# Altium schematic symbol library SymbLib.SchLib: 11 symbols
Pins are listed as number, name and electrical type; pins without a type are passive.

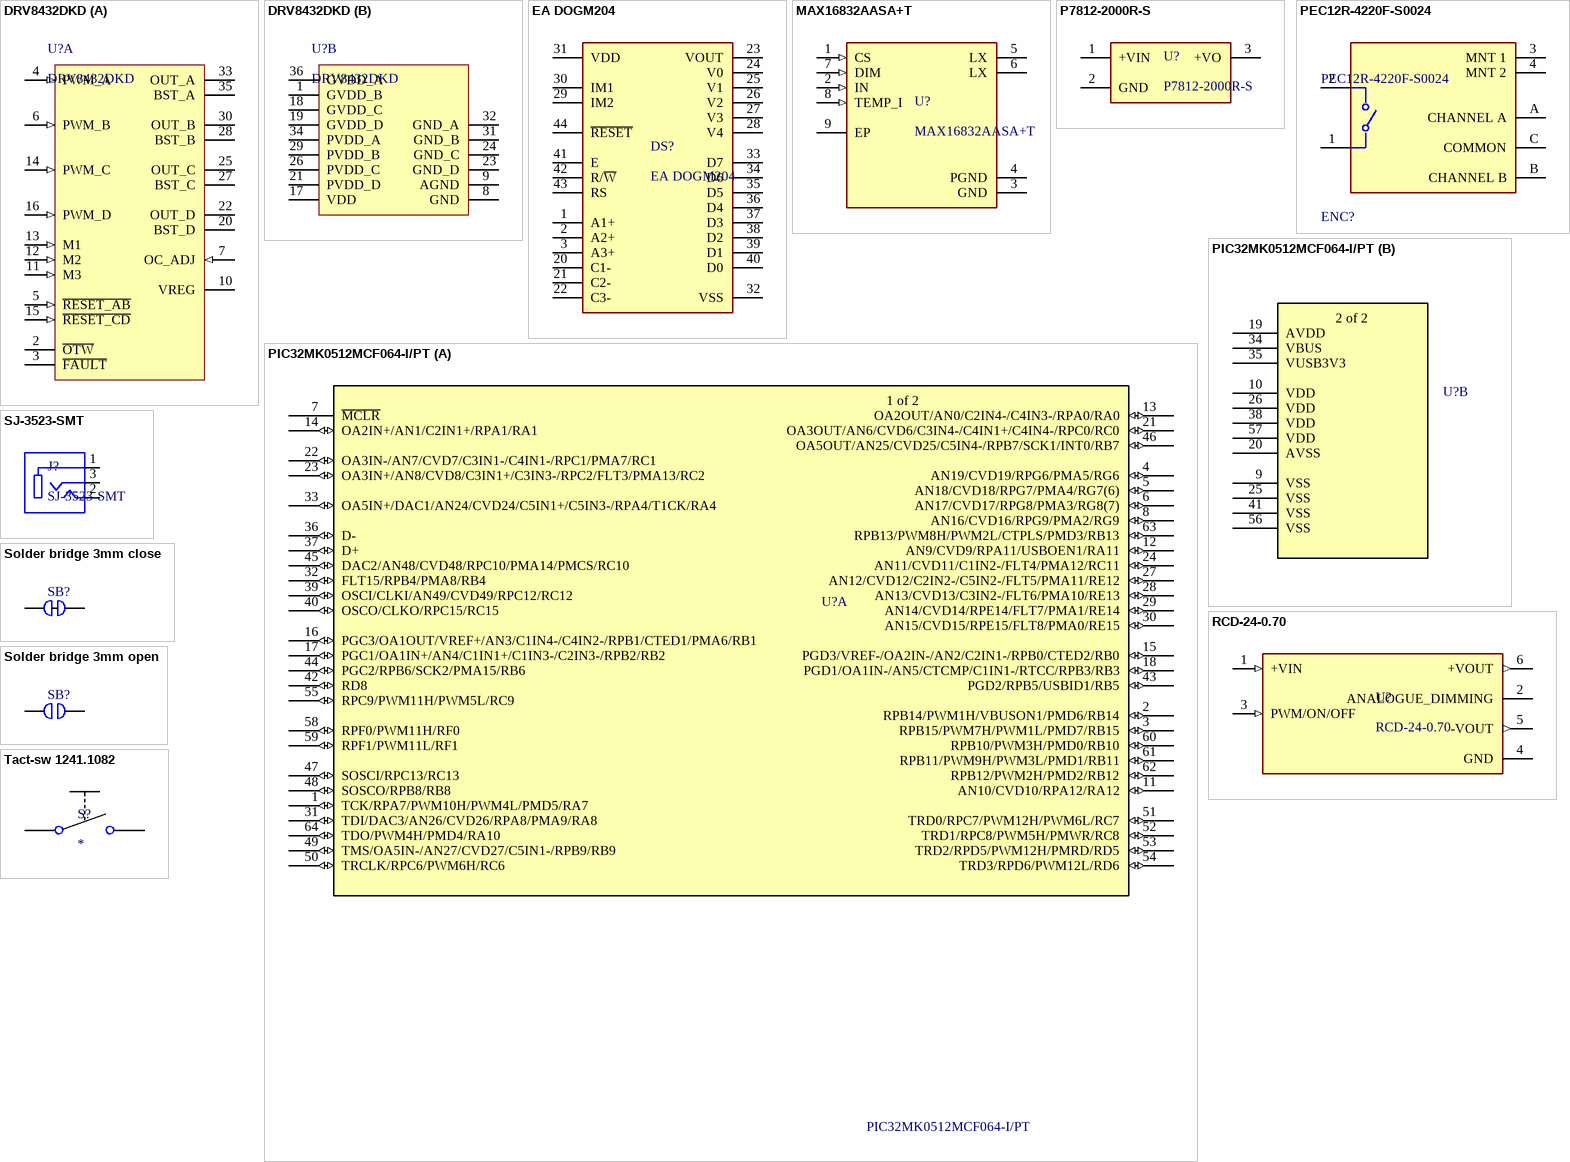
[diagram p0: symbols DRV8432DKD to Tact-sw 1241.1082]

## DRV8432DKD
designator U?
12 A Dual Brushed DC or Single Bipolar Stepper Motor Driver (PWM Ctrl), 0 to 52.5 V, -40 to 85 degC, 36-pin SOP (DKD36), Green (RoHS & no Sb/Br); Vs(Max)(V): 52.5; RMS Output Current(A): 7; Peak Output Current(A): 12; Vs(Min)(V): 0; rDS (ON) (LS + HS)(mOhms): 220; Package Reference: DKD0036A; PackageVersion: 4204421-2/K, 11/2013; Mounting Technology: Surface Mount; PackageDescription: 36-Pin Plastic Small Outline, Body 15.9 x 11 mm, Pitch 0.65 mm; PartNumber: DRV8432DKD; DatasheetVersion: SLES242D; ComponentLink3Description: Package Specification; ComponentLink1URL: http://www.ti.com/; Control I/F: PWM; ComponentLink1Description: Manufacturer URL; ComponentLink2Description: Datasheet; Eco-Plan: Green (RoHS & no Sb/Br); ComponentLink2URL: http://www.ti.com/general/docs/lit/getliterature.tsp?genericPartNumber=DRV8432&fileType=pdf; ComponentLink3URL: http://www.ti.com/lit/ml/mpds126j/mpds126j.pdf
footprint SOP65P1420X360-36N
part A pins: 2 ~{OTW} (oc) "Overtemperature warning signal, open-drain, active-low. An internal pull-up resistor to VREG (3.3 V) is provided on output. Level compliance for 5-V logic can be obtained by adding external pull-up resistor to 5 V", 3 ~{FAULT} (oc) "Fault signal, open-drain, active-low. An internal pull-up resistor to VREG (3.3 V) is provided on output. Level compliance for 5-V logic can be obtained by adding external pull-up resistor to 5 V", 4 PWM_A (in) "Input signal for half-bridge A", 5 ~{RESET_AB} (in) "Reset signal for half-bridge A and half-bridge B, active-low", 6 PWM_B (in) "Input signal for half-bridge B", 7 OC_ADJ (in) "Analog overcurrent programming pin, requires resistor to AGND", 10 VREG "Digital regulator supply filter pin requires 0.1-uF capacitor to AGND.", 11 M3 (in) "Reserved mode selection pin, AGND connection is recommended", 12 M2 (in) "Mode selection pin", 13 M1 (in) "Mode selection pin", 14 PWM_C (in) "Input signal for half-bridge C", 15 ~{RESET_CD} (in) "Reset signal for half-bridge C and half-bridge D, active-low", 16 PWM_D (in) "Input signal for half-bridge D", 20 BST_D "High side bootstrap supply (BST), external capacitor to OUT_D required", 22 OUT_D (hiz) "Output, half-bridge D", 25 OUT_C (hiz) "Output, half-bridge C", 27 BST_C "High side bootstrap supply (BST), external capacitor to OUT_C required", 28 BST_B "High side bootstrap supply (BST), external capacitor to OUT_B required", 30 OUT_B (hiz) "Output, half-bridge B", 33 OUT_A (hiz) "Output, half-bridge A", 35 BST_A "High side bootstrap supply (BST), external capacitor to OUT_A required"
part B pins: 1 GVDD_B (power) "Gate-drive voltage supply", 8 GND (power) "Ground", 9 AGND (power) "Analog ground", 17 VDD (power) "Power supply for digital voltage regulator requires capacitor to ground for decoupling.", 18 GVDD_C (power) "Gate-drive voltage supply", 19 GVDD_D (power) "Gate-drive voltage supply", 21 PVDD_D (power) "Power supply input for half-bridge D requires close decoupling capacitor to ground.", 23 GND_D (power) "Power ground for half-bridge D requires close decoupling capacitor to ground", 24 GND_C (power) "Power ground for half-bridge C requires close decoupling capacitor to ground", 26 PVDD_C (power) "Power supply input for half-bridge C requires close decoupling capacitor to ground.", 29 PVDD_B (power) "Power supply input for half-bridge B requires close decoupling capacitor to gound.", 31 GND_B (power) "Power ground for half-bridge B requires close decoupling capacitor to ground", 32 GND_A (power) "Power ground for half-bridge A requires close decoupling capacitor to ground", 34 PVDD_A (power) "Power supply input for half-bridge A requires close decoupling capacitor to ground.", 36 GVDD_A (power) "Gate-drive voltage supply"

## EA DOGM204
designator DS?
footprint EA DOGM204
pins: 1 A1+, 2 A2+, 3 A3+, 20 C1-, 21 C2-, 22 C3-, 23 VOUT, 24 V0, 25 V1, 26 V2, 27 V3, 28 V4, 29 IM2, 30 IM1, 31 VDD, 32 VSS, 33 D7, 34 D6, 35 D5, 36 D4, 37 D3, 38 D2, 39 D1, 40 D0, 41 E, 42 R/~{W}, 43 RS, 44 ~{RESET}

## MAX16832AASA+T
designator U?
footprint SOIC127P600X168-9N
pins: 1 CS (in), 2 IN (in), 3 GND (power), 4 PGND (power), 5 LX, 6 LX, 7 DIM (in), 8 TEMP_I (in), 9 EP

## P7812-2000R-S
designator U?
footprint P7812-2000R-S
pins: 1 +VIN, 2 GND (power), 3 +VO

## PEC12R-4220F-S0024
designator ENC?
ROTARY ENCODER MECHANICAL 24PPR; Built in Switch: Yes; Pulses per Revolution: 24; Output Type: Quadrature; Hole Diameter: 2mm; Number of Channels: 2; Max Supply Voltage (DC): 5V; RoHS Compliant: Yes; Max Operating Temperature: 70°C; Length: 26mm; Width: 12.5mm; Encoder Type: Mechanical; Series: PEC12R; Mount: Through Hole; Height: 13.4mm; Packaging: Bulk; Package Quantity: 150; Termination: PC Pin; Min Operating Temperature: -30°C; REACH SVHC: No SVHC; Detent: Yes; Orientation: Vertical
footprint FP-PEC12R-4120F-S0012-MFG (PEC12 OEDNI-50-3-7 knob)
pins: 1, 2, 3 MNT 1, 4 MNT 2, A CHANNEL A, B CHANNEL B, C COMMON

## PIC32MK0512MCF064-I/PT
designator U?
Mfr_Name: Microchip; Copyright: Copyright (C) 2023 Ultra Librarian. All rights reserved.; Manufacturer_Part_Number: PIC32MK0512MCF064-I/PT; RefDes: RefDes; Type: DEV
footprint TQFP64_PT_MCH
part A pins: 1 TCK/RPA7/PWM10H/PWM4L/PMD5/RA7 (io), 2 RPB14/PWM1H/VBUSON1/PMD6/RB14 (io), 3 RPB15/PWM7H/PWM1L/PMD7/RB15 (io), 4 AN19/CVD19/RPG6/PMA5/RG6 (io), 5 AN18/CVD18/RPG7/PMA4/RG7(6) (io), 6 AN17/CVD17/RPG8/PMA3/RG8(7) (io), 7 ~{MCLR}, 8 AN16/CVD16/RPG9/PMA2/RG9 (io), 11 AN10/CVD10/RPA12/RA12 (io), 12 AN9/CVD9/RPA11/USBOEN1/RA11 (io), 13 OA2OUT/AN0/C2IN4-/C4IN3-/RPA0/RA0 (io), 14 OA2IN+/AN1/C2IN1+/RPA1/RA1 (io), 15 PGD3/VREF-/OA2IN-/AN2/C2IN1-/RPB0/CTED2/RB0 (io), 16 PGC3/OA1OUT/VREF+/AN3/C1IN4-/C4IN2-/RPB1/CTED1/PMA6/RB1 (io), 17 PGC1/OA1IN+/AN4/C1IN1+/C1IN3-/C2IN3-/RPB2/RB2 (io), 18 PGD1/OA1IN-/AN5/CTCMP/C1IN1-/RTCC/RPB3/RB3 (io), 21 OA3OUT/AN6/CVD6/C3IN4-/C4IN1+/C4IN4-/RPC0/RC0 (io), 22 OA3IN-/AN7/CVD7/C3IN1-/C4IN1-/RPC1/PMA7/RC1 (io), 23 OA3IN+/AN8/CVD8/C3IN1+/C3IN3-/RPC2/FLT3/PMA13/RC2 (io), 24 AN11/CVD11/C1IN2-/FLT4/PMA12/RC11 (io), 27 AN12/CVD12/C2IN2-/C5IN2-/FLT5/PMA11/RE12 (io), 28 AN13/CVD13/C3IN2-/FLT6/PMA10/RE13 (io), 29 AN14/CVD14/RPE14/FLT7/PMA1/RE14 (io), 30 AN15/CVD15/RPE15/FLT8/PMA0/RE15 (io), 31 TDI/DAC3/AN26/CVD26/RPA8/PMA9/RA8 (io), 32 FLT15/RPB4/PMA8/RB4 (io), 33 OA5IN+/DAC1/AN24/CVD24/C5IN1+/C5IN3-/RPA4/T1CK/RA4 (io), 36 D- (io), 37 D+ (io), 39 OSCI/CLKI/AN49/CVD49/RPC12/RC12 (io), 40 OSCO/CLKO/RPC15/RC15 (io), 42 RD8 (io), 43 PGD2/RPB5/USBID1/RB5 (io), 44 PGC2/RPB6/SCK2/PMA15/RB6 (io), 45 DAC2/AN48/CVD48/RPC10/PMA14/PMCS/RC10 (io), 46 OA5OUT/AN25/CVD25/C5IN4-/RPB7/SCK1/INT0/RB7 (io), 47 SOSCI/RPC13/RC13 (io), 48 SOSCO/RPB8/RB8 (io), 49 TMS/OA5IN-/AN27/CVD27/C5IN1-/RPB9/RB9 (io), 50 TRCLK/RPC6/PWM6H/RC6 (io), 51 TRD0/RPC7/PWM12H/PWM6L/RC7 (io), 52 TRD1/RPC8/PWM5H/PMWR/RC8 (io), 53 TRD2/RPD5/PWM12H/PMRD/RD5 (io), 54 TRD3/RPD6/PWM12L/RD6 (io), 55 RPC9/PWM11H/PWM5L/RC9 (io), 58 RPF0/PWM11H/RF0 (io), 59 RPF1/PWM11L/RF1 (io), 60 RPB10/PWM3H/PMD0/RB10 (io), 61 RPB11/PWM9H/PWM3L/PMD1/RB11 (io), 62 RPB12/PWM2H/PMD2/RB12 (io), 63 RPB13/PWM8H/PWM2L/CTPLS/PMD3/RB13 (io), 64 TDO/PWM4H/PMD4/RA10 (io)
part B pins: 9 VSS, 10 VDD (power), 19 AVDD (power), 20 AVSS, 25 VSS, 26 VDD (power), 34 VBUS (power), 35 VUSB3V3 (power), 38 VDD (power), 41 VSS, 56 VSS, 57 VDD (power)
part A text: 1 of 2
part B text: 2 of 2

## RCD-24-0.70
designator U?
footprint RCD-24-0.70
pins: 1 +VIN (in), 2 ANALOGUE_DIMMING, 3 PWM/ON/OFF (in), 4 GND (power), 5 -VOUT (out), 6 +VOUT (out)

## SJ-3523-SMT
designator J?
footprint CUI_SJ-3523-SMT
pins: 1, 2, 3

## Solder bridge 3mm close
designator SB?  (value not drawn)
footprint Solder bridge
pins: 1, 2

## Solder bridge 3mm open
designator SB?  (value not drawn)
footprint Solder bridge
pins: 1, 2

## Tact-sw 1241.1082
designator S?
footprint Tact-sw 1241.1082
pins: 1, 2